# Altium footprint library atmel.PCBLIB: 60 footprints (part 2 of 4)
Each footprint in its own frame and in the unit in brackets; x right, y up, seen from the top. Pads: shape width x height; smd on the part's side, far side on the other; paste and mask are expansions set on the pad; w line width, h text height; cw(c..) or ccw(c..) is an arc to the next point about the centre after c.
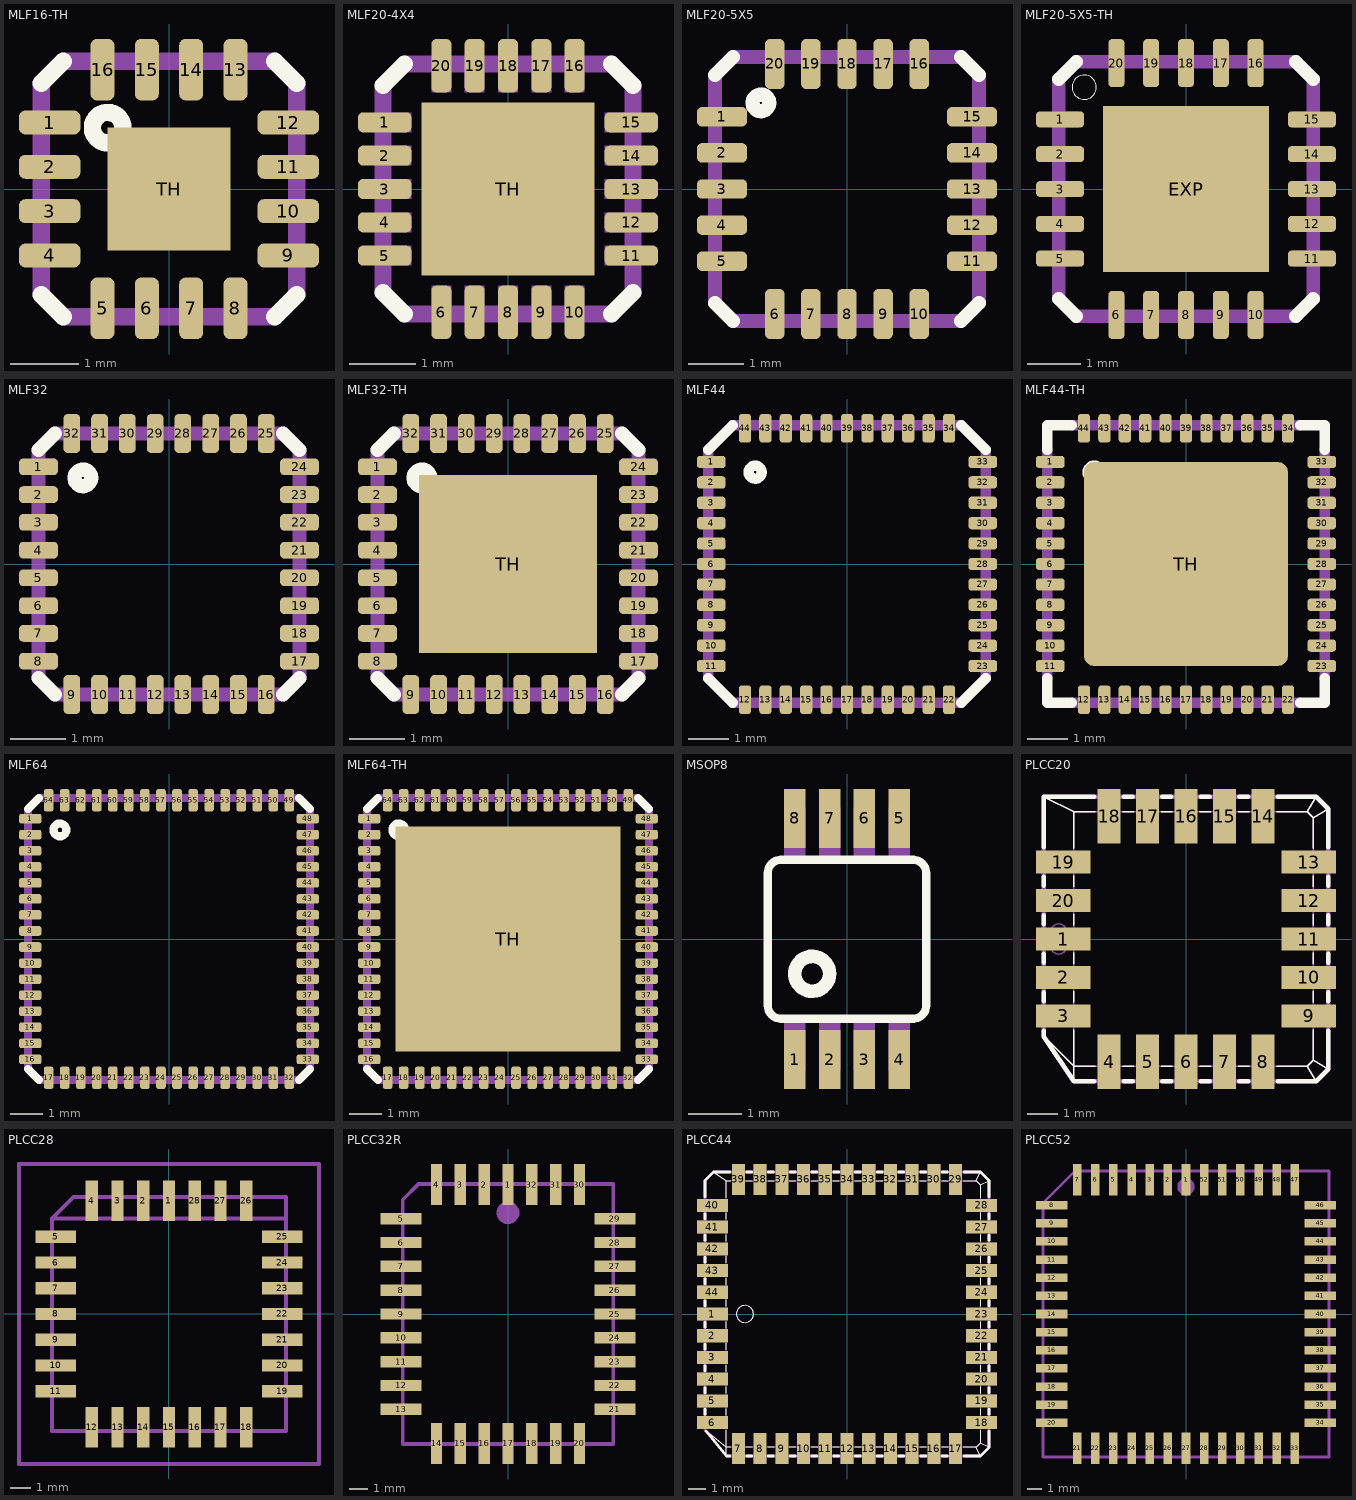
[diagram p1: the footprints below, top view; thin cyan lines are the x and y axes]

## MLF16-TH [mm]
pads (17):
  rrect50% 0.9x0.35 smd: 1(-1.75,0.975) 2(-1.75,0.325) 3(-1.75,-0.325) 4(-1.75,-0.975) 9(1.75,-0.975) 10(1.75,-0.325) 11(1.75,0.325) 12(1.75,0.975)
  rrect50% 0.35x0.9 smd: 5(-0.975,-1.75) 6(-0.325,-1.75) 7(0.325,-1.75) 8(0.975,-1.75) 13(0.975,1.75) 14(0.325,1.75) 15(-0.325,1.75) 16(-0.975,1.75)
  rect 1.8x1.8 smd: TH(0,0)
Top Overlay:
  circle w0.254: c-0.9,0.9 r0.224
  lines w0.254: -1.875,-1.55 -1.55,-1.875 ; -1.875,1.55 -1.55,1.875 ; 1.55,-1.875 1.875,-1.55 ; 1.55,1.875 1.875,1.55
Mechanical 16:
  rectangle: -1.85,0.825 -1.4,1.125
  rectangle: -1.85,0.175 -1.4,0.475
  rectangle: -1.85,-0.475 -1.4,-0.175
  rectangle: -1.85,-1.125 -1.4,-0.825
  rectangle: -1.125,-1.85 -0.825,-1.4
  rectangle: -0.475,-1.85 -0.175,-1.4
  rectangle: 0.175,-1.85 0.475,-1.4
  rectangle: 0.825,-1.85 1.125,-1.4
  rectangle: 1.4,-1.125 1.85,-0.825
  rectangle: 1.4,-0.475 1.85,-0.175
  rectangle: 1.4,0.175 1.85,0.475
  rectangle: 1.4,0.825 1.85,1.125
  rectangle: 0.825,1.4 1.125,1.85
  rectangle: 0.175,1.4 0.475,1.85
  rectangle: -0.475,1.4 -0.175,1.85
  rectangle: -1.125,1.4 -0.825,1.85
  lines w0.254: -1.875,-1.55 -1.875,1.55 ; -1.55,-1.875 1.55,-1.875 ; -1.55,1.875 1.55,1.875 ; 1.875,-1.55 1.875,1.55

## MLF20-4X4 [mil]
pads (21):
  rrect50% 31.5x11.81 smd: 1(-72.83,39.37) 2(-72.83,19.69) 3(-72.83,0) 4(-72.83,-19.69) 5(-72.83,-39.37) 11(72.83,-39.37) 12(72.83,-19.69) 13(72.83,0) 14(72.83,19.69) 15(72.83,39.37)
  rrect50% 11.81x31.5 smd: 6(-39.37,-72.83) 7(-19.69,-72.83) 8(0,-72.83) 9(19.69,-72.83) 10(39.37,-72.83) 16(39.37,72.83) 17(19.69,72.83) 18(0,72.83) 19(-19.69,72.83) 20(-39.37,72.83)
  rect 102.36x102.36 smd: TH(0,0)
Top Overlay:
  circle w10: c-39.37,39.37 r5.91
  lines w10: -73.82,-61.02 -61.02,-73.82 ; -73.82,61.02 -61.02,73.82 ; 61.02,-73.82 73.82,-61.02 ; 61.02,73.82 73.82,61.02
Mechanical 16:
  rectangle: -72.83,-5.91 -57.09,5.91
  rectangle: -72.83,13.78 -57.09,25.59
  rectangle: -72.83,33.46 -57.09,45.28
  rectangle: -72.83,-25.59 -57.09,-13.78
  rectangle: -72.83,-45.28 -57.09,-33.46
  region: 5.91,-72.84 5.91,-57.1 -5.91,-57.1 -5.91,-72.84
  region: -13.78,-72.84 -13.78,-57.09 -25.59,-57.09 -25.59,-72.84
  region: -33.47,-72.84 -33.47,-57.09 -45.28,-57.09 -45.28,-72.84
  region: 25.59,-72.84 25.59,-57.09 13.78,-57.09 13.78,-72.84
  region: 45.28,-72.84 45.28,-57.09 33.47,-57.09 33.47,-72.84
  region: 72.83,5.91 57.09,5.91 57.09,-5.91 72.83,-5.91
  region: 72.83,-13.78 57.09,-13.78 57.09,-25.59 72.83,-25.59
  region: 72.83,-33.46 57.09,-33.46 57.09,-45.28 72.83,-45.28
  region: 72.83,25.59 57.09,25.59 57.09,13.78 72.83,13.78
  region: 72.83,45.28 57.09,45.28 57.09,33.46 72.83,33.46
  region: -5.9,72.84 -5.91,57.1 5.9,57.1 5.91,72.84
  region: 13.78,72.84 13.78,57.09 25.59,57.09 25.59,72.84
  region: 33.47,72.84 33.47,57.09 45.28,57.09 45.28,72.84
  region: -25.59,72.84 -25.59,57.09 -13.78,57.09 -13.78,72.84
  region: -45.28,72.84 -45.28,57.09 -33.47,57.09 -33.47,72.84
  lines w10: -73.82,-61.02 -73.82,61.02 ; -61.02,-73.82 61.02,-73.82 ; -61.02,73.82 61.02,73.82 ; 73.82,-61.02 73.82,61.02

## MLF20-5X5 [mm]
pads (20):
  rrect50% 0.9x0.35 smd: 1(-2.25,1.3) 2(-2.25,0.65) 3(-2.25,0) 4(-2.25,-0.65) 5(-2.25,-1.3) 11(2.25,-1.3) 12(2.25,-0.65) 13(2.25,0) 14(2.25,0.65) 15(2.25,1.3)
  rrect50% 0.35x0.9 smd: 6(-1.3,-2.25) 7(-0.65,-2.25) 8(0,-2.25) 9(0.65,-2.25) 10(1.3,-2.25) 16(1.3,2.25) 17(0.65,2.25) 18(0,2.25) 19(-0.65,2.25) 20(-1.3,2.25)
Top Overlay:
  circle w0.254: c-1.55,1.55 r0.15
  lines w0.254: -2.375,-2.05 -2.05,-2.375 ; -2.375,2.05 -2.05,2.375 ; 2.05,-2.375 2.375,-2.05 ; 2.05,2.375 2.375,2.05
Mechanical 16:
  rectangle: -2.35,1.15 -1.9,1.45
  rectangle: -2.35,0.5 -1.9,0.8
  rectangle: -2.35,-0.15 -1.9,0.15
  rectangle: -2.35,-0.8 -1.9,-0.5
  rectangle: -2.35,-1.45 -1.9,-1.15
  rectangle: -1.45,-2.35 -1.15,-1.9
  rectangle: -0.8,-2.35 -0.5,-1.9
  rectangle: -0.15,-2.35 0.15,-1.9
  rectangle: 0.5,-2.35 0.8,-1.9
  rectangle: 1.15,-2.35 1.45,-1.9
  rectangle: 1.9,-1.45 2.35,-1.15
  rectangle: 1.9,-0.8 2.35,-0.5
  rectangle: 1.9,-0.15 2.35,0.15
  rectangle: 1.9,0.5 2.35,0.8
  rectangle: 1.9,1.15 2.35,1.45
  rectangle: 1.15,1.9 1.45,2.35
  rectangle: 0.5,1.9 0.8,2.35
  rectangle: -0.15,1.9 0.15,2.35
  rectangle: -0.8,1.9 -0.5,2.35
  rectangle: -1.45,1.9 -1.15,2.35
  lines w0.254: -2.375,-2.05 -2.375,2.05 ; -2.05,-2.375 2.05,-2.375 ; -2.05,2.375 2.05,2.375 ; 2.375,-2.05 2.375,2.05

## MLF20-5X5-TH [mm]
pads (21):
  rrect50% 0.9x0.3 smd: 1(-2.35,1.3) 2(-2.35,0.65) 3(-2.35,0) 4(-2.35,-0.65) 5(-2.35,-1.3) 11(2.35,-1.3) 12(2.35,-0.65) 13(2.35,0) 14(2.35,0.65) 15(2.35,1.3)
  rrect50% 0.3x0.9 smd: 6(-1.3,-2.35) 7(-0.65,-2.35) 8(0,-2.35) 9(0.65,-2.35) 10(1.3,-2.35) 16(1.3,2.35) 17(0.65,2.35) 18(0,2.35) 19(-0.65,2.35) 20(-1.3,2.35)
  rect 3.1x3.1 smd: EXP(0,0)
Top Overlay:
  circle w0: c-1.9,1.9 r0.226
  lines w0.254: -2.375,-2.05 -2.05,-2.375 ; -2.375,2.05 -2.05,2.375 ; 2.05,-2.375 2.375,-2.05 ; 2.05,2.375 2.375,2.05
Mechanical 16:
  rectangle: -2.45,1.15 -2,1.45
  rectangle: -2.45,0.5 -2,0.8
  rectangle: -2.45,-0.15 -2,0.15
  rectangle: -2.45,-0.8 -2,-0.5
  rectangle: -2.45,-1.45 -2,-1.15
  rectangle: -1.45,-2.45 -1.15,-2
  rectangle: -0.8,-2.45 -0.5,-2
  rectangle: -0.15,-2.45 0.15,-2
  rectangle: 0.5,-2.45 0.8,-2
  rectangle: 1.15,-2.45 1.45,-2
  rectangle: 2,-1.45 2.45,-1.15
  rectangle: 2,-0.8 2.45,-0.5
  rectangle: 2,-0.15 2.45,0.15
  rectangle: 2,0.5 2.45,0.8
  rectangle: 2,1.15 2.45,1.45
  rectangle: 1.15,2 1.45,2.45
  rectangle: 0.5,2 0.8,2.45
  rectangle: -0.15,2 0.15,2.45
  rectangle: -0.8,2 -0.5,2.45
  rectangle: -1.45,2 -1.15,2.45
  lines w0.254: -2.375,-2.05 -2.375,2.05 ; -2.05,-2.375 2.05,-2.375 ; -2.05,2.375 2.05,2.375 ; 2.375,-2.05 2.375,2.05

## MLF32 [mm]
pads (32):
  rrect50% 0.7x0.3 smd: 1(-2.35,1.75) 2(-2.35,1.25) 3(-2.35,0.75) 4(-2.35,0.25) 5(-2.35,-0.25) 6(-2.35,-0.75) 7(-2.35,-1.25) 8(-2.35,-1.75) 17(2.35,-1.75) 18(2.35,-1.25) 19(2.35,-0.75) 20(2.35,-0.25) 21(2.35,0.25) 22(2.35,0.75) 23(2.35,1.25) 24(2.35,1.75)
  rrect50% 0.3x0.7 smd: 9(-1.75,-2.35) 10(-1.25,-2.35) 11(-0.75,-2.35) 12(-0.25,-2.35) 13(0.25,-2.35) 14(0.75,-2.35) 15(1.25,-2.35) 16(1.75,-2.35) 25(1.75,2.35) 26(1.25,2.35) 27(0.75,2.35) 28(0.25,2.35) 29(-0.25,2.35) 30(-0.75,2.35) 31(-1.25,2.35) 32(-1.75,2.35)
Top Overlay:
  circle w0.254: c-1.55,1.55 r0.15
  lines w0.254: -2.35,-2.05 -2.05,-2.35 ; -2.35,2.05 -2.05,2.35 ; 2.05,-2.35 2.35,-2.05 ; 2.05,2.35 2.35,2.05
Mechanical 16:
  rectangle: -2.5,1.6 -2.05,1.9
  rectangle: -2.5,1.1 -2.05,1.4
  rectangle: -2.5,0.6 -2.05,0.9
  rectangle: -2.5,0.1 -2.05,0.4
  rectangle: -2.5,-0.4 -2.05,-0.1
  rectangle: -2.5,-0.9 -2.05,-0.6
  rectangle: -2.5,-1.4 -2.05,-1.1
  rectangle: -2.5,-1.9 -2.05,-1.6
  rectangle: -1.9,-2.5 -1.6,-2.05
  rectangle: -1.4,-2.5 -1.1,-2.05
  rectangle: -0.9,-2.5 -0.6,-2.05
  rectangle: -0.4,-2.5 -0.1,-2.05
  rectangle: 0.1,-2.5 0.4,-2.05
  rectangle: 0.6,-2.5 0.9,-2.05
  rectangle: 1.1,-2.5 1.4,-2.05
  rectangle: 1.6,-2.5 1.9,-2.05
  rectangle: 2.05,-1.9 2.5,-1.6
  rectangle: 2.05,-1.4 2.5,-1.1
  rectangle: 2.05,-0.9 2.5,-0.6
  rectangle: 2.05,-0.4 2.5,-0.1
  rectangle: 2.05,0.1 2.5,0.4
  rectangle: 2.05,0.6 2.5,0.9
  rectangle: 2.05,1.1 2.5,1.4
  rectangle: 2.05,1.6 2.5,1.9
  rectangle: 1.6,2.05 1.9,2.5
  rectangle: 1.1,2.05 1.4,2.5
  rectangle: 0.6,2.05 0.9,2.5
  rectangle: 0.1,2.05 0.4,2.5
  rectangle: -0.4,2.05 -0.1,2.5
  rectangle: -0.9,2.05 -0.6,2.5
  rectangle: -1.4,2.05 -1.1,2.5
  rectangle: -1.9,2.05 -1.6,2.5
  lines w0.254: -2.35,-2.05 -2.35,2.05 ; -2.05,-2.35 2.05,-2.35 ; -2.05,2.35 2.05,2.35 ; 2.35,-2.05 2.35,2.05

## MLF32-TH [mm]
pads (33):
  rrect50% 0.7x0.3 smd: 1(-2.35,1.75) 2(-2.35,1.25) 3(-2.35,0.75) 4(-2.35,0.25) 5(-2.35,-0.25) 6(-2.35,-0.75) 7(-2.35,-1.25) 8(-2.35,-1.75) 17(2.35,-1.75) 18(2.35,-1.25) 19(2.35,-0.75) 20(2.35,-0.25) 21(2.35,0.25) 22(2.35,0.75) 23(2.35,1.25) 24(2.35,1.75)
  rrect50% 0.3x0.7 smd: 9(-1.75,-2.35) 10(-1.25,-2.35) 11(-0.75,-2.35) 12(-0.25,-2.35) 13(0.25,-2.35) 14(0.75,-2.35) 15(1.25,-2.35) 16(1.75,-2.35) 25(1.75,2.35) 26(1.25,2.35) 27(0.75,2.35) 28(0.25,2.35) 29(-0.25,2.35) 30(-0.75,2.35) 31(-1.25,2.35) 32(-1.75,2.35)
  rect 3.2x3.2 smd: TH(0,0)
Top Overlay:
  circle w0.254: c-1.55,1.55 r0.15
  lines w0.254: -2.35,-2.05 -2.05,-2.35 ; -2.35,2.05 -2.05,2.35 ; 2.05,-2.35 2.35,-2.05 ; 2.05,2.35 2.35,2.05
Mechanical 16:
  rectangle: -2.5,1.6 -2.05,1.9
  rectangle: -2.5,1.1 -2.05,1.4
  rectangle: -2.5,0.6 -2.05,0.9
  rectangle: -2.5,0.1 -2.05,0.4
  rectangle: -2.5,-0.4 -2.05,-0.1
  rectangle: -2.5,-0.9 -2.05,-0.6
  rectangle: -2.5,-1.4 -2.05,-1.1
  rectangle: -2.5,-1.9 -2.05,-1.6
  rectangle: -1.9,-2.5 -1.6,-2.05
  rectangle: -1.4,-2.5 -1.1,-2.05
  rectangle: -0.9,-2.5 -0.6,-2.05
  rectangle: -0.4,-2.5 -0.1,-2.05
  rectangle: 0.1,-2.5 0.4,-2.05
  rectangle: 0.6,-2.5 0.9,-2.05
  rectangle: 1.1,-2.5 1.4,-2.05
  rectangle: 1.6,-2.5 1.9,-2.05
  rectangle: 2.05,-1.9 2.5,-1.6
  rectangle: 2.05,-1.4 2.5,-1.1
  rectangle: 2.05,-0.9 2.5,-0.6
  rectangle: 2.05,-0.4 2.5,-0.1
  rectangle: 2.05,0.1 2.5,0.4
  rectangle: 2.05,0.6 2.5,0.9
  rectangle: 2.05,1.1 2.5,1.4
  rectangle: 2.05,1.6 2.5,1.9
  rectangle: 1.6,2.05 1.9,2.5
  rectangle: 1.1,2.05 1.4,2.5
  rectangle: 0.6,2.05 0.9,2.5
  rectangle: 0.1,2.05 0.4,2.5
  rectangle: -0.4,2.05 -0.1,2.5
  rectangle: -0.9,2.05 -0.6,2.5
  rectangle: -1.4,2.05 -1.1,2.5
  rectangle: -1.9,2.05 -1.6,2.5
  lines w0.254: -2.35,-2.05 -2.35,2.05 ; -2.05,-2.35 2.05,-2.35 ; -2.05,2.35 2.05,2.35 ; 2.35,-2.05 2.35,2.05

## MLF44 [mm]
pads (44):
  rrect50% 0.7x0.3 smd: 1(-3.325,2.5) 2(-3.325,2) 3(-3.325,1.5) 4(-3.325,1) 5(-3.325,0.5) 6(-3.325,0) 7(-3.325,-0.5) 8(-3.325,-1) 9(-3.325,-1.5) 10(-3.325,-2) 11(-3.325,-2.5) 23(3.325,-2.5) 24(3.325,-2) 25(3.325,-1.5) 26(3.325,-1) 27(3.325,-0.5) 28(3.325,0) 29(3.325,0.5) 30(3.325,1) 31(3.325,1.5) 32(3.325,2) 33(3.325,2.5)
  rrect50% 0.3x0.7 smd: 12(-2.5,-3.325) 13(-2,-3.325) 14(-1.5,-3.325) 15(-1,-3.325) 16(-0.5,-3.325) 17(0,-3.325) 18(0.5,-3.325) 19(1,-3.325) 20(1.5,-3.325) 21(2,-3.325) 22(2.5,-3.325) 34(2.5,3.325) 35(2,3.325) 36(1.5,3.325) 37(1,3.325) 38(0.5,3.325) 39(0,3.325) 40(-0.5,3.325) 41(-1,3.325) 42(-1.5,3.325) 43(-2,3.325) 44(-2.5,3.325)
Top Overlay:
  circle w0.254: c-2.25,2.25 r0.158
  lines w0.254: -3.4,-2.8 -2.8,-3.4 ; -3.4,2.8 -2.8,3.4 ; 2.8,-3.4 3.4,-2.8 ; 2.8,3.4 3.4,2.8
Mechanical 16:
  rectangle: -3.5,2.375 -3,2.625
  rectangle: -3.5,1.875 -3,2.125
  rectangle: -3.5,1.375 -3,1.625
  rectangle: -3.5,0.875 -3,1.125
  rectangle: -3.5,0.375 -3,0.625
  rectangle: -3.5,-0.125 -3,0.125
  rectangle: -3.5,-0.625 -3,-0.375
  rectangle: -3.5,-1.125 -3,-0.875
  rectangle: -3.5,-1.625 -3,-1.375
  rectangle: -3.5,-2.125 -3,-1.875
  rectangle: -3.5,-2.625 -3,-2.375
  rectangle: -2.625,-3.5 -2.375,-3
  rectangle: -2.125,-3.5 -1.875,-3
  rectangle: -1.625,-3.5 -1.375,-3
  rectangle: -1.125,-3.5 -0.875,-3
  rectangle: -0.625,-3.5 -0.375,-3
  rectangle: -0.125,-3.5 0.125,-3
  rectangle: 0.375,-3.5 0.625,-3
  rectangle: 0.875,-3.5 1.125,-3
  rectangle: 1.375,-3.5 1.625,-3
  rectangle: 1.875,-3.5 2.125,-3
  rectangle: 2.375,-3.5 2.625,-3
  rectangle: 3,-2.625 3.5,-2.375
  rectangle: 3,-2.125 3.5,-1.875
  rectangle: 3,-1.625 3.5,-1.375
  rectangle: 3,-1.125 3.5,-0.875
  rectangle: 3,-0.625 3.5,-0.375
  rectangle: 3,-0.125 3.5,0.125
  rectangle: 3,0.375 3.5,0.625
  rectangle: 3,0.875 3.5,1.125
  rectangle: 3,1.375 3.5,1.625
  rectangle: 3,1.875 3.5,2.125
  rectangle: 3,2.375 3.5,2.625
  rectangle: 2.375,3 2.625,3.5
  rectangle: 1.875,3 2.125,3.5
  rectangle: 1.375,3 1.625,3.5
  rectangle: 0.875,3 1.125,3.5
  rectangle: 0.375,3 0.625,3.5
  rectangle: -0.125,3 0.125,3.5
  rectangle: -0.625,3 -0.375,3.5
  rectangle: -1.125,3 -0.875,3.5
  rectangle: -1.625,3 -1.375,3.5
  rectangle: -2.125,3 -1.875,3.5
  rectangle: -2.625,3 -2.375,3.5
  lines w0.254: -3.4,-2.8 -3.4,2.8 ; -2.8,-3.4 2.8,-3.4 ; -2.8,3.4 2.8,3.4 ; 3.4,-2.8 3.4,2.8

## MLF44-TH [mm]
pads (45):
  rrect50% 0.7x0.3 smd: 1(-3.325,2.5) 2(-3.325,2) 3(-3.325,1.5) 4(-3.325,1) 5(-3.325,0.5) 6(-3.325,0) 7(-3.325,-0.5) 8(-3.325,-1) 9(-3.325,-1.5) 10(-3.325,-2) 11(-3.325,-2.5) 23(3.325,-2.5) 24(3.325,-2) 25(3.325,-1.5) 26(3.325,-1) 27(3.325,-0.5) 28(3.325,0) 29(3.325,0.5) 30(3.325,1) 31(3.325,1.5) 32(3.325,2) 33(3.325,2.5)
  rrect50% 0.3x0.7 smd: 12(-2.5,-3.325) 13(-2,-3.325) 14(-1.5,-3.325) 15(-1,-3.325) 16(-0.5,-3.325) 17(0,-3.325) 18(0.5,-3.325) 19(1,-3.325) 20(1.5,-3.325) 21(2,-3.325) 22(2.5,-3.325) 34(2.5,3.325) 35(2,3.325) 36(1.5,3.325) 37(1,3.325) 38(0.5,3.325) 39(0,3.325) 40(-0.5,3.325) 41(-1,3.325) 42(-1.5,3.325) 43(-2,3.325) 44(-2.5,3.325)
  rrect10% 5x5 smd: TH(0,0)
Top Overlay:
  circle w0.254: c-2.25,2.25 r0.158
  lines w0.254: -3.4,-2.8 -3.4,-3.4 -2.8,-3.4 ; -3.4,2.8 -3.4,3.4 -2.8,3.4 ; 2.8,-3.4 3.4,-3.4 3.4,-2.8 ; 2.8,3.4 3.4,3.4 3.4,2.8
Mechanical 16:
  rectangle: -3.5,2.375 -3,2.625
  rectangle: -3.5,1.875 -3,2.125
  rectangle: -3.5,1.375 -3,1.625
  rectangle: -3.5,0.875 -3,1.125
  rectangle: -3.5,0.375 -3,0.625
  rectangle: -3.5,-0.125 -3,0.125
  rectangle: -3.5,-0.625 -3,-0.375
  rectangle: -3.5,-1.125 -3,-0.875
  rectangle: -3.5,-1.625 -3,-1.375
  rectangle: -3.5,-2.125 -3,-1.875
  rectangle: -3.5,-2.625 -3,-2.375
  rectangle: -2.625,-3.5 -2.375,-3
  rectangle: -2.125,-3.5 -1.875,-3
  rectangle: -1.625,-3.5 -1.375,-3
  rectangle: -1.125,-3.5 -0.875,-3
  rectangle: -0.625,-3.5 -0.375,-3
  rectangle: -0.125,-3.5 0.125,-3
  rectangle: 0.375,-3.5 0.625,-3
  rectangle: 0.875,-3.5 1.125,-3
  rectangle: 1.375,-3.5 1.625,-3
  rectangle: 1.875,-3.5 2.125,-3
  rectangle: 2.375,-3.5 2.625,-3
  rectangle: 3,-2.625 3.5,-2.375
  rectangle: 3,-2.125 3.5,-1.875
  rectangle: 3,-1.625 3.5,-1.375
  rectangle: 3,-1.125 3.5,-0.875
  rectangle: 3,-0.625 3.5,-0.375
  rectangle: 3,-0.125 3.5,0.125
  rectangle: 3,0.375 3.5,0.625
  rectangle: 3,0.875 3.5,1.125
  rectangle: 3,1.375 3.5,1.625
  rectangle: 3,1.875 3.5,2.125
  rectangle: 3,2.375 3.5,2.625
  rectangle: 2.375,3 2.625,3.5
  rectangle: 1.875,3 2.125,3.5
  rectangle: 1.375,3 1.625,3.5
  rectangle: 0.875,3 1.125,3.5
  rectangle: 0.375,3 0.625,3.5
  rectangle: -0.125,3 0.125,3.5
  rectangle: -0.625,3 -0.375,3.5
  rectangle: -1.125,3 -0.875,3.5
  rectangle: -1.625,3 -1.375,3.5
  rectangle: -2.125,3 -1.875,3.5
  rectangle: -2.625,3 -2.375,3.5
  lines w0.254: -3.4,-2.8 -3.4,2.8 ; -2.8,-3.4 2.8,-3.4 ; -2.8,3.4 2.8,3.4 ; 3.4,-2.8 3.4,2.8

## MLF64 [mm]
pads (64):
  rrect50% 0.7x0.3 smd: 1(-4.325,3.75) 2(-4.325,3.25) 3(-4.325,2.75) 4(-4.325,2.25) 5(-4.325,1.75) 6(-4.325,1.25) 7(-4.325,0.75) 8(-4.325,0.25) 9(-4.325,-0.25) 10(-4.325,-0.75) 11(-4.325,-1.25) 12(-4.325,-1.75) 13(-4.325,-2.25) 14(-4.325,-2.75) 15(-4.325,-3.25) 16(-4.325,-3.75) 33(4.325,-3.75) 34(4.325,-3.25) 35(4.325,-2.75) 36(4.325,-2.25) 37(4.325,-1.75) 38(4.325,-1.25) 39(4.325,-0.75) 40(4.325,-0.25) 41(4.325,0.25) 42(4.325,0.75) 43(4.325,1.25) 44(4.325,1.75) 45(4.325,2.25) 46(4.325,2.75) 47(4.325,3.25) 48(4.325,3.75)
  rrect50% 0.3x0.7 smd: 17(-3.75,-4.325) 18(-3.25,-4.325) 19(-2.75,-4.325) 20(-2.25,-4.325) 21(-1.75,-4.325) 22(-1.25,-4.325) 23(-0.75,-4.325) 24(-0.25,-4.325) 25(0.25,-4.325) 26(0.75,-4.325) 27(1.25,-4.325) 28(1.75,-4.325) 29(2.25,-4.325) 30(2.75,-4.325) 31(3.25,-4.325) 32(3.75,-4.325) 49(3.75,4.325) 50(3.25,4.325) 51(2.75,4.325) 52(2.25,4.325) 53(1.75,4.325) 54(1.25,4.325) 55(0.75,4.325) 56(0.25,4.325) 57(-0.25,4.325) 58(-0.75,4.325) 59(-1.25,4.325) 60(-1.75,4.325) 61(-2.25,4.325) 62(-2.75,4.325) 63(-3.25,4.325) 64(-3.75,4.325)
Top Overlay:
  circle w0.254: c-3.4,3.4 r0.2
  lines w0.254: -4.4,-4.05 -4.05,-4.4 ; -4.4,4.05 -4.05,4.4 ; 4.05,-4.4 4.4,-4.05 ; 4.05,4.4 4.4,4.05
Mechanical 16:
  rectangle: -4.5,3.625 -4,3.875
  rectangle: -4.5,3.125 -4,3.375
  rectangle: -4.5,2.625 -4,2.875
  rectangle: -4.5,2.125 -4,2.375
  rectangle: -4.5,1.625 -4,1.875
  rectangle: -4.5,1.125 -4,1.375
  rectangle: -4.5,0.625 -4,0.875
  rectangle: -4.5,0.125 -4,0.375
  rectangle: -4.5,-0.375 -4,-0.125
  rectangle: -4.5,-0.875 -4,-0.625
  rectangle: -4.5,-1.375 -4,-1.125
  rectangle: -4.5,-1.875 -4,-1.625
  rectangle: -4.5,-2.375 -4,-2.125
  rectangle: -4.5,-2.875 -4,-2.625
  rectangle: -4.5,-3.375 -4,-3.125
  rectangle: -4.5,-3.875 -4,-3.625
  rectangle: -3.875,-4.5 -3.625,-4
  rectangle: -3.375,-4.5 -3.125,-4
  rectangle: -2.875,-4.5 -2.625,-4
  rectangle: -2.375,-4.5 -2.125,-4
  rectangle: -1.875,-4.5 -1.625,-4
  rectangle: -1.375,-4.5 -1.125,-4
  rectangle: -0.875,-4.5 -0.625,-4
  rectangle: -0.375,-4.5 -0.125,-4
  rectangle: 0.125,-4.5 0.375,-4
  rectangle: 0.625,-4.5 0.875,-4
  rectangle: 1.125,-4.5 1.375,-4
  rectangle: 1.625,-4.5 1.875,-4
  rectangle: 2.125,-4.5 2.375,-4
  rectangle: 2.625,-4.5 2.875,-4
  rectangle: 3.125,-4.5 3.375,-4
  rectangle: 3.625,-4.5 3.875,-4
  rectangle: 4,-3.875 4.5,-3.625
  rectangle: 4,-3.375 4.5,-3.125
  rectangle: 4,-2.875 4.5,-2.625
  rectangle: 4,-2.375 4.5,-2.125
  rectangle: 4,-1.875 4.5,-1.625
  rectangle: 4,-1.375 4.5,-1.125
  rectangle: 4,-0.875 4.5,-0.625
  rectangle: 4,-0.375 4.5,-0.125
  rectangle: 4,0.125 4.5,0.375
  rectangle: 4,0.625 4.5,0.875
  rectangle: 4,1.125 4.5,1.375
  rectangle: 4,1.625 4.5,1.875
  rectangle: 4,2.125 4.5,2.375
  rectangle: 4,2.625 4.5,2.875
  rectangle: 4,3.125 4.5,3.375
  rectangle: 4,3.625 4.5,3.875
  rectangle: 3.625,4 3.875,4.5
  rectangle: 3.125,4 3.375,4.5
  rectangle: 2.625,4 2.875,4.5
  rectangle: 2.125,4 2.375,4.5
  rectangle: 1.625,4 1.875,4.5
  rectangle: 1.125,4 1.375,4.5
  rectangle: 0.625,4 0.875,4.5
  rectangle: 0.125,4 0.375,4.5
  rectangle: -0.375,4 -0.125,4.5
  rectangle: -0.875,4 -0.625,4.5
  rectangle: -1.375,4 -1.125,4.5
  rectangle: -1.875,4 -1.625,4.5
  rectangle: -2.375,4 -2.125,4.5
  rectangle: -2.875,4 -2.625,4.5
  rectangle: -3.375,4 -3.125,4.5
  rectangle: -3.875,4 -3.625,4.5
  lines w0.254: -4.4,-4.05 -4.4,4.05 ; -4.05,-4.4 4.05,-4.4 ; -4.05,4.4 4.05,4.4 ; 4.4,-4.05 4.4,4.05

## MLF64-TH [mm]
pads (65):
  rrect50% 0.7x0.3 smd: 1(-4.325,3.75) 2(-4.325,3.25) 3(-4.325,2.75) 4(-4.325,2.25) 5(-4.325,1.75) 6(-4.325,1.25) 7(-4.325,0.75) 8(-4.325,0.25) 9(-4.325,-0.25) 10(-4.325,-0.75) 11(-4.325,-1.25) 12(-4.325,-1.75) 13(-4.325,-2.25) 14(-4.325,-2.75) 15(-4.325,-3.25) 16(-4.325,-3.75) 33(4.325,-3.75) 34(4.325,-3.25) 35(4.325,-2.75) 36(4.325,-2.25) 37(4.325,-1.75) 38(4.325,-1.25) 39(4.325,-0.75) 40(4.325,-0.25) 41(4.325,0.25) 42(4.325,0.75) 43(4.325,1.25) 44(4.325,1.75) 45(4.325,2.25) 46(4.325,2.75) 47(4.325,3.25) 48(4.325,3.75)
  rrect50% 0.3x0.7 smd: 17(-3.75,-4.325) 18(-3.25,-4.325) 19(-2.75,-4.325) 20(-2.25,-4.325) 21(-1.75,-4.325) 22(-1.25,-4.325) 23(-0.75,-4.325) 24(-0.25,-4.325) 25(0.25,-4.325) 26(0.75,-4.325) 27(1.25,-4.325) 28(1.75,-4.325) 29(2.25,-4.325) 30(2.75,-4.325) 31(3.25,-4.325) 32(3.75,-4.325) 49(3.75,4.325) 50(3.25,4.325) 51(2.75,4.325) 52(2.25,4.325) 53(1.75,4.325) 54(1.25,4.325) 55(0.75,4.325) 56(0.25,4.325) 57(-0.25,4.325) 58(-0.75,4.325) 59(-1.25,4.325) 60(-1.75,4.325) 61(-2.25,4.325) 62(-2.75,4.325) 63(-3.25,4.325) 64(-3.75,4.325)
  rect 7x7 smd: TH(0,0)
Top Overlay:
  circle w0.254: c-3.4,3.4 r0.2
  lines w0.254: -4.4,-4.05 -4.05,-4.4 ; -4.4,4.05 -4.05,4.4 ; 4.05,-4.4 4.4,-4.05 ; 4.05,4.4 4.4,4.05
Mechanical 16:
  rectangle: -4.5,3.625 -4,3.875
  rectangle: -4.5,3.125 -4,3.375
  rectangle: -4.5,2.625 -4,2.875
  rectangle: -4.5,2.125 -4,2.375
  rectangle: -4.5,1.625 -4,1.875
  rectangle: -4.5,1.125 -4,1.375
  rectangle: -4.5,0.625 -4,0.875
  rectangle: -4.5,0.125 -4,0.375
  rectangle: -4.5,-0.375 -4,-0.125
  rectangle: -4.5,-0.875 -4,-0.625
  rectangle: -4.5,-1.375 -4,-1.125
  rectangle: -4.5,-1.875 -4,-1.625
  rectangle: -4.5,-2.375 -4,-2.125
  rectangle: -4.5,-2.875 -4,-2.625
  rectangle: -4.5,-3.375 -4,-3.125
  rectangle: -4.5,-3.875 -4,-3.625
  rectangle: -3.875,-4.5 -3.625,-4
  rectangle: -3.375,-4.5 -3.125,-4
  rectangle: -2.875,-4.5 -2.625,-4
  rectangle: -2.375,-4.5 -2.125,-4
  rectangle: -1.875,-4.5 -1.625,-4
  rectangle: -1.375,-4.5 -1.125,-4
  rectangle: -0.875,-4.5 -0.625,-4
  rectangle: -0.375,-4.5 -0.125,-4
  rectangle: 0.125,-4.5 0.375,-4
  rectangle: 0.625,-4.5 0.875,-4
  rectangle: 1.125,-4.5 1.375,-4
  rectangle: 1.625,-4.5 1.875,-4
  rectangle: 2.125,-4.5 2.375,-4
  rectangle: 2.625,-4.5 2.875,-4
  rectangle: 3.125,-4.5 3.375,-4
  rectangle: 3.625,-4.5 3.875,-4
  rectangle: 4,-3.875 4.5,-3.625
  rectangle: 4,-3.375 4.5,-3.125
  rectangle: 4,-2.875 4.5,-2.625
  rectangle: 4,-2.375 4.5,-2.125
  rectangle: 4,-1.875 4.5,-1.625
  rectangle: 4,-1.375 4.5,-1.125
  rectangle: 4,-0.875 4.5,-0.625
  rectangle: 4,-0.375 4.5,-0.125
  rectangle: 4,0.125 4.5,0.375
  rectangle: 4,0.625 4.5,0.875
  rectangle: 4,1.125 4.5,1.375
  rectangle: 4,1.625 4.5,1.875
  rectangle: 4,2.125 4.5,2.375
  rectangle: 4,2.625 4.5,2.875
  rectangle: 4,3.125 4.5,3.375
  rectangle: 4,3.625 4.5,3.875
  rectangle: 3.625,4 3.875,4.5
  rectangle: 3.125,4 3.375,4.5
  rectangle: 2.625,4 2.875,4.5
  rectangle: 2.125,4 2.375,4.5
  rectangle: 1.625,4 1.875,4.5
  rectangle: 1.125,4 1.375,4.5
  rectangle: 0.625,4 0.875,4.5
  rectangle: 0.125,4 0.375,4.5
  rectangle: -0.375,4 -0.125,4.5
  rectangle: -0.875,4 -0.625,4.5
  rectangle: -1.375,4 -1.125,4.5
  rectangle: -1.875,4 -1.625,4.5
  rectangle: -2.375,4 -2.125,4.5
  rectangle: -2.875,4 -2.625,4.5
  rectangle: -3.375,4 -3.125,4.5
  rectangle: -3.875,4 -3.625,4.5
  lines w0.254: -4.4,-4.05 -4.4,4.05 ; -4.05,-4.4 4.05,-4.4 ; -4.05,4.4 4.05,4.4 ; 4.4,-4.05 4.4,4.05

## MSOP8 [mm]
pads (8):
  rect 0.4x1.1 smd: 1(-0.975,-2.25) 2(-0.325,-2.25) 3(0.325,-2.25) 4(0.975,-2.25) 5(0.975,2.25) 6(0.325,2.25) 7(-0.325,2.25) 8(-0.975,2.25)
Top Overlay:
  circle w0.254: c-0.65,-0.65 r0.325
  lines w0.152: -1.48,-1.24 ccw(c-1.23,-1.24) -1.23,-1.49 ; -1.48,-1.23 -1.48,1.23 cw(c-1.23,1.23) -1.23,1.48 ; -1.22,-1.49 1.24,-1.49 ; -1.22,1.48 1.24,1.48 ; 1.23,-1.49 ccw(c1.23,-1.24) 1.48,-1.24 1.48,1.23 ccw(c1.23,1.23) 1.23,1.48
Mechanical 16:
  rectangle: -1.175,-2.45 -0.775,-1.55
  rectangle: -0.525,-2.45 -0.125,-1.55
  rectangle: 0.125,-2.45 0.525,-1.55
  rectangle: 0.775,-2.45 1.175,-1.55
  rectangle: 0.775,1.55 1.175,2.45
  rectangle: 0.125,1.55 0.525,2.45
  rectangle: -0.525,1.55 -0.125,2.45
  rectangle: -1.175,1.55 -0.775,2.45

## PLCC20 [mm]
pads (20):
  rect 1.8x0.76 smd: 1(-4.05,0) 2(-4.05,-1.27) 3(-4.05,-2.54) 9(4.05,-2.54) 10(4.05,-1.27) 11(4.05,0) 12(4.05,1.27) 13(4.05,2.54) 19(-4.05,2.54) 20(-4.05,1.27)
  rect 0.76x1.8 smd: 4(-2.54,-4.05) 5(-1.27,-4.05) 6(0,-4.05) 7(1.27,-4.05) 8(2.54,-4.05) 14(2.54,4.05) 15(1.27,4.05) 16(0,4.05) 17(-1.27,4.05) 18(-2.54,4.05)
Top Overlay:
  lines w0.051: -4.7,4.7 -3.7,4.2 ; -4.69,-3.21 -3.7,-4.2 ; -3.7,-4.69 -3.7,-4.2 ; -3.7,-2.991 -3.7,-4.2 ; -3.7,-2.089 -3.7,-1.721 ; -3.7,-0.819 -3.7,-0.451 ; -3.7,0.451 -3.7,0.819 ; -3.7,1.721 -3.7,2.089 ; -3.7,2.991 -3.7,4.2 ; -2.991,-4.2 -3.7,-4.2 ; -2.991,4.2 -3.7,4.2 ; -2.089,-4.2 -1.721,-4.2 ; -2.089,4.2 -1.721,4.2 ; -0.819,-4.2 -0.451,-4.2 ; -0.819,4.2 -0.451,4.2 ; 0.451,-4.2 0.819,-4.2 ; 0.451,4.2 0.819,4.2 ; 1.721,-4.2 2.089,-4.2 ; 1.721,4.2 2.089,4.2 ; 2.991,-4.2 4,-4.2 ; 2.991,4.2 4,4.2 ; 4.2,-2.991 4.2,-4 ; 4.2,-2.089 4.2,-1.721 ; 4.2,-0.819 4.2,-0.451 ; 4.2,0.451 4.2,0.819 ; 4.2,1.721 4.2,2.089 ; 4.2,2.991 4.2,4 ; 4.3,-4.7 4,-4.2 ; 4.3,4.7 4,4.2 ; 4.7,-4.3 4.2,-4 ; 4.7,4.3 4.2,4 ; 4,-4.2 4.2,-4 ; 4,4.2 4.2,4
  lines w0.152: -4.7,-3.031 -4.7,-3.21 -3.7,-4.7 -3.031,-4.7 ; -4.7,-2.049 -4.7,-1.761 ; -4.7,-0.779 -4.7,-0.491 ; -4.7,0.491 -4.7,0.779 ; -4.7,1.761 -4.7,2.049 ; -4.7,3.031 -4.7,4.7 -3.031,4.7 ; -2.049,-4.7 -1.761,-4.7 ; -2.049,4.7 -1.761,4.7 ; -0.779,-4.7 -0.491,-4.7 ; -0.779,4.7 -0.491,4.7 ; 0.491,-4.7 0.779,-4.7 ; 0.491,4.7 0.779,4.7 ; 1.761,-4.7 2.049,-4.7 ; 1.761,4.7 2.049,4.7 ; 3.031,-4.7 4.3,-4.7 4.7,-4.3 4.7,-3.031 ; 3.031,4.7 4.3,4.7 4.7,4.3 4.7,3.031 ; 4.7,-2.049 4.7,-1.761 ; 4.7,-0.779 4.7,-0.491 ; 4.7,0.491 4.7,0.779 ; 4.7,1.761 4.7,2.049
Mechanical 16:
  rectangle: -2.79,-4.95 -2.29,-4.7
  rectangle: -2.79,4.7 -2.29,4.95
  rectangle: -1.52,4.7 -1.02,4.95
  rectangle: -0.25,4.7 0.25,4.95
  rectangle: 1.02,4.7 1.52,4.95
  rectangle: 2.29,4.7 2.79,4.95
  rectangle: 1.02,4.7 1.52,4.95
  rectangle: -0.25,4.7 0.25,4.95
  rectangle: 4.7,2.29 4.95,2.79
  rectangle: 4.7,1.02 4.95,1.52
  rectangle: 4.7,-0.25 4.95,0.25
  rectangle: 4.7,-1.52 4.95,-1.02
  rectangle: 4.7,-2.79 4.95,-2.29
  rectangle: -1.52,-4.95 -1.02,-4.7
  rectangle: -0.25,-4.95 0.25,-4.7
  rectangle: 1.02,-4.95 1.52,-4.7
  rectangle: 2.29,-4.95 2.79,-4.7
  rectangle: -4.95,2.29 -4.7,2.79
  rectangle: -4.95,1.02 -4.7,1.52
  rectangle: -4.95,-0.25 -4.7,0.25
  rectangle: -4.95,-1.52 -4.7,-1.02
  rectangle: -4.95,-2.79 -4.7,-2.29
  lines w0.051: -4.7,-3.2 -3.7,-4.2 ; -4.7,4.7 -3.7,4.2 ; 4.3,-4.7 4,-4.2 ; 4.3,4.7 4,4.2 ; 4.7,-4.3 4.2,-4 ; 4.7,4.3 4.2,4 ; -3.7,-4.2 4,-4.2 ; -3.7,-4.2 -3.7,4.2 ; -3.7,4.2 4,4.2 ; 4,-4.2 4.2,-4 ; 4,4.2 4.2,4 ; 4.2,-4 4.2,4 ; -4.45,-0.25 ccw(c-4.2,-0.25) -3.95,-0.25 -3.95,0.25 ccw(c-4.2,0.25) -4.45,0.25 -4.45,-0.25
  lines w0.152: -4.7,-3.2 -4.7,4.7 4.3,4.7 4.7,4.3 4.7,-4.3 4.3,-4.7 -3.7,-4.7 -4.7,-3.2

## PLCC28 [mm]
pads (28):
  rect 0.6x2 smd: 1(0,5.6) 2(-1.27,5.6) 3(-2.54,5.6) 4(-3.81,5.6) 12(-3.81,-5.6) 13(-2.54,-5.6) 14(-1.27,-5.6) 15(0,-5.6) 16(1.27,-5.6) 17(2.54,-5.6) 18(3.81,-5.6) 26(3.81,5.6) 27(2.54,5.6) 28(1.27,5.6)
  rect 2x0.6 smd: 5(-5.6,3.81) 6(-5.6,2.54) 7(-5.6,1.27) 8(-5.6,0) 9(-5.6,-1.27) 10(-5.6,-2.54) 11(-5.6,-3.81) 19(5.6,-3.81) 20(5.6,-2.54) 21(5.6,-1.27) 22(5.6,0) 23(5.6,1.27) 24(5.6,2.54) 25(5.6,3.81)
Mechanical 16:
  rectangle: -0.26,5.825 0.26,6.275
  rectangle: -1.53,5.825 -1.01,6.275
  rectangle: -2.8,5.825 -2.28,6.275
  rectangle: -4.07,5.825 -3.55,6.275
  rectangle: -6.275,3.55 -5.825,4.07
  rectangle: -6.275,2.28 -5.825,2.8
  rectangle: -6.275,1.01 -5.825,1.53
  rectangle: -6.275,-0.26 -5.825,0.26
  rectangle: -6.275,-1.53 -5.825,-1.01
  rectangle: -6.275,-2.8 -5.825,-2.28
  rectangle: -6.275,-4.07 -5.825,-3.55
  rectangle: -4.07,-6.275 -3.55,-5.825
  rectangle: -2.8,-6.275 -2.28,-5.825
  rectangle: -1.53,-6.275 -1.01,-5.825
  rectangle: -0.26,-6.275 0.26,-5.825
  rectangle: 1.01,-6.275 1.53,-5.825
  rectangle: 2.28,-6.275 2.8,-5.825
  rectangle: 3.55,-6.275 4.07,-5.825
  rectangle: 5.825,-4.07 6.275,-3.55
  rectangle: 5.825,-2.8 6.275,-2.28
  rectangle: 5.825,-1.53 6.275,-1.01
  rectangle: 5.825,-0.26 6.275,0.26
  rectangle: 5.825,1.01 6.275,1.53
  rectangle: 5.825,2.28 6.275,2.8
  rectangle: 5.825,3.55 6.275,4.07
  rectangle: 3.55,5.825 4.07,6.275
  rectangle: 2.28,5.825 2.8,6.275
  rectangle: 1.01,5.825 1.53,6.275
  lines w0.203: 5.75,4.715 -5.775,4.715 ; -5.775,4.715 -5.775,-5.775 5.775,-5.775 5.775,5.775 -4.715,5.775 -5.775,4.715
Mechanical 27:
  lines w0.2: -7.403,-7.403 7.403,-7.403 7.403,7.403 -7.403,7.403 -7.403,-7.403

## PLCC32R [mm]
pads (32):
  rect 0.6x2.2 smd: 1(0,6.9) 2(-1.27,6.9) 3(-2.54,6.9) 4(-3.81,6.9) 14(-3.81,-6.9) 15(-2.54,-6.9) 16(-1.27,-6.9) 17(0,-6.9) 18(1.27,-6.9) 19(2.54,-6.9) 20(3.81,-6.9) 30(3.81,6.9) 31(2.54,6.9) 32(1.27,6.9)
  rect 2.2x0.6 smd: 5(-5.7,5.08) 6(-5.7,3.81) 7(-5.7,2.54) 8(-5.7,1.27) 9(-5.7,0) 10(-5.7,-1.27) 11(-5.7,-2.54) 12(-5.7,-3.81) 13(-5.7,-5.08) 21(5.7,-5.08) 22(5.7,-3.81) 23(5.7,-2.54) 24(5.7,-1.27) 25(5.7,0) 26(5.7,1.27) 27(5.7,2.54) 28(5.7,3.81) 29(5.7,5.08)
Mechanical 16:
  circle w0.61: c0,5.4 r0.3
  rectangle: -0.26,6.95 0.27,7.53
  rectangle: -1.53,6.95 -1,7.53
  rectangle: -2.8,6.95 -2.27,7.53
  rectangle: -4.07,6.95 -3.54,7.53
  rectangle: -6.33,4.82 -5.75,5.35
  rectangle: -6.33,3.55 -5.75,4.08
  rectangle: -6.33,2.28 -5.75,2.81
  rectangle: -6.33,1.01 -5.75,1.54
  rectangle: -6.33,-0.26 -5.75,0.27
  rectangle: -6.33,-1.53 -5.75,-1
  rectangle: -6.33,-2.8 -5.75,-2.27
  rectangle: -6.33,-4.07 -5.75,-3.54
  rectangle: -6.33,-5.34 -5.75,-4.81
  rectangle: -4.08,-7.53 -3.55,-6.95
  rectangle: -2.81,-7.53 -2.28,-6.95
  rectangle: -1.54,-7.53 -1.01,-6.95
  rectangle: -0.27,-7.53 0.26,-6.95
  rectangle: 1,-7.53 1.53,-6.95
  rectangle: 2.27,-7.53 2.8,-6.95
  rectangle: 3.54,-7.53 4.07,-6.95
  rectangle: 5.75,-5.35 6.33,-4.82
  rectangle: 5.75,-4.08 6.33,-3.55
  rectangle: 5.75,-2.81 6.33,-2.28
  rectangle: 5.75,-1.54 6.33,-1.01
  rectangle: 5.75,-0.27 6.33,0.26
  rectangle: 5.75,1 6.33,1.53
  rectangle: 5.75,2.27 6.33,2.8
  rectangle: 5.75,3.54 6.33,4.07
  rectangle: 5.75,4.81 6.33,5.34
  rectangle: 3.55,6.95 4.08,7.53
  rectangle: 2.28,6.95 2.81,7.53
  rectangle: 1.01,6.95 1.54,7.53
  lines w0.203: -5.61,-6.93 5.61,-6.93 5.61,6.93 -4.77,6.93 -5.61,6.09 -5.61,-6.93

## PLCC44 [mm]
pads (44):
  rect 1.8x0.76 smd: 1(-7.86,0) 2(-7.86,-1.27) 3(-7.86,-2.54) 4(-7.86,-3.81) 5(-7.86,-5.08) 6(-7.86,-6.35) 18(7.86,-6.35) 19(7.86,-5.08) 20(7.86,-3.81) 21(7.86,-2.54) 22(7.86,-1.27) 23(7.86,0) 24(7.86,1.27) 25(7.86,2.54) 26(7.86,3.81) 27(7.86,5.08) 28(7.86,6.35) 40(-7.86,6.35) 41(-7.86,5.08) 42(-7.86,3.81) 43(-7.86,2.54) 44(-7.86,1.27)
  rect 0.76x1.8 smd: 7(-6.35,-7.86) 8(-5.08,-7.86) 9(-3.81,-7.86) 10(-2.54,-7.86) 11(-1.27,-7.86) 12(0,-7.86) 13(1.27,-7.86) 14(2.54,-7.86) 15(3.81,-7.86) 16(5.08,-7.86) 17(6.35,-7.86) 29(6.35,7.86) 30(5.08,7.86) 31(3.81,7.86) 32(2.54,7.86) 33(1.27,7.86) 34(0,7.86) 35(-1.27,7.86) 36(-2.54,7.86) 37(-3.81,7.86) 38(-5.08,7.86) 39(-6.35,7.86)
Top Overlay:
  circle w0.051: c-5.96,0 r0.5
  lines w0.051: -8.219,-6.852 -7.04,-7.79 ; -7.79,8.29 -7.04,7.79 ; -7.04,-8.29 -7.04,-7.79 ; -7.04,-6.801 -7.04,-7.79 ; -7.04,-5.899 -7.04,-5.531 ; -7.04,-4.629 -7.04,-4.261 ; -7.04,-3.359 -7.04,-2.991 ; -7.04,-2.089 -7.04,-1.721 ; -7.04,-0.819 -7.04,-0.451 ; -7.04,0.451 -7.04,0.819 ; -7.04,1.721 -7.04,2.089 ; -7.04,2.991 -7.04,3.359 ; -7.04,4.261 -7.04,4.629 ; -7.04,5.531 -7.04,5.899 ; -7.04,6.801 -7.04,7.79 ; -6.801,-7.79 -7.04,-7.79 ; -6.801,7.79 -7.04,7.79 ; -5.899,-7.79 -5.531,-7.79 ; -5.899,7.79 -5.531,7.79 ; -4.629,-7.79 -4.261,-7.79 ; -4.629,7.79 -4.261,7.79 ; -3.359,-7.79 -2.991,-7.79 ; -3.359,7.79 -2.991,7.79 ; -2.089,-7.79 -1.721,-7.79 ; -2.089,7.79 -1.721,7.79 ; -0.819,-7.79 -0.451,-7.79 ; -0.819,7.79 -0.451,7.79 ; 0.451,-7.79 0.819,-7.79 ; 0.451,7.79 0.819,7.79 ; 1.721,-7.79 2.089,-7.79 ; 1.721,7.79 2.089,7.79 ; 2.991,-7.79 3.359,-7.79 ; 2.991,7.79 3.359,7.79 ; 4.261,-7.79 4.629,-7.79 ; 4.261,7.79 4.629,7.79 ; 5.531,-7.79 5.899,-7.79 ; 5.531,7.79 5.899,7.79 ; 6.801,-7.79 7.54,-7.79 ; 6.801,7.79 7.54,7.79 ; 7.79,-8.29 7.54,-7.79 ; 7.79,-6.801 7.79,-7.54 ; 7.79,-5.899 7.79,-5.531 ; 7.79,-4.629 7.79,-4.261 ; 7.79,-3.359 7.79,-2.991 ; 7.79,-2.089 7.79,-1.721 ; 7.79,-0.819 7.79,-0.451 ; 7.79,0.451 7.79,0.819 ; 7.79,1.721 7.79,2.089 ; 7.79,2.991 7.79,3.359 ; 7.79,4.261 7.79,4.629 ; 7.79,5.531 7.79,5.899 ; 7.79,6.801 7.79,7.54 ; 7.79,8.29 7.54,7.79 ; 8.29,-7.79 7.79,-7.54 ; 8.29,7.79 7.79,7.54 ; 7.54,-7.79 7.79,-7.54 ; 7.54,7.79 7.79,7.54
  lines w0.152: -8.29,-5.859 -8.29,-5.571 ; -8.29,-4.589 -8.29,-4.301 ; -8.29,-3.319 -8.29,-3.031 ; -8.29,-2.049 -8.29,-1.761 ; -8.29,-0.779 -8.29,-0.491 ; -8.29,0.491 -8.29,0.779 ; -8.29,1.761 -8.29,2.049 ; -8.29,3.031 -8.29,3.319 ; -8.29,4.301 -8.29,4.589 ; -8.29,5.571 -8.29,5.859 ; -8.29,6.841 -8.29,7.79 -7.79,8.29 -6.841,8.29 ; -8.24,-6.841 -7.04,-8.29 -6.841,-8.29 ; -5.859,-8.29 -5.571,-8.29 ; -5.859,8.29 -5.571,8.29 ; -4.589,-8.29 -4.301,-8.29 ; -4.589,8.29 -4.301,8.29 ; -3.319,-8.29 -3.031,-8.29 ; -3.319,8.29 -3.031,8.29 ; -2.049,-8.29 -1.761,-8.29 ; -2.049,8.29 -1.761,8.29 ; -0.779,-8.29 -0.491,-8.29 ; -0.779,8.29 -0.491,8.29 ; 0.491,-8.29 0.779,-8.29 ; 0.491,8.29 0.779,8.29 ; 1.761,-8.29 2.049,-8.29 ; 1.761,8.29 2.049,8.29 ; 3.031,-8.29 3.319,-8.29 ; 3.031,8.29 3.319,8.29 ; 4.301,-8.29 4.589,-8.29 ; 4.301,8.29 4.589,8.29 ; 5.571,-8.29 5.859,-8.29 ; 5.571,8.29 5.859,8.29 ; 6.841,-8.29 7.79,-8.29 8.29,-7.79 8.29,-6.841 ; 6.841,8.29 7.79,8.29 8.29,7.79 8.29,6.841 ; 8.29,-5.859 8.29,-5.571 ; 8.29,-4.589 8.29,-4.301 ; 8.29,-3.319 8.29,-3.031 ; 8.29,-2.049 8.29,-1.761 ; 8.29,-0.779 8.29,-0.491 ; 8.29,0.491 8.29,0.779 ; 8.29,1.761 8.29,2.049 ; 8.29,3.031 8.29,3.319 ; 8.29,4.301 8.29,4.589 ; 8.29,5.571 8.29,5.859
Mechanical 16:
  circle w0.051: c-5.96,0 r0.5
  rectangle: -2.92,8.29 -2.16,8.76
  rectangle: -1.65,8.29 -0.89,8.76
  rectangle: -0.38,8.29 0.38,8.76
  rectangle: 0.89,8.29 1.65,8.76
  rectangle: 2.16,8.29 2.92,8.76
  rectangle: 3.43,8.29 4.19,8.76
  rectangle: 4.7,8.29 5.46,8.76
  rectangle: 8.29,3.43 8.76,4.19
  rectangle: 8.29,2.16 8.76,2.92
  rectangle: 8.29,0.89 8.76,1.65
  rectangle: 8.29,-0.38 8.76,0.38
  rectangle: 8.29,-1.65 8.76,-0.89
  rectangle: 8.29,-2.92 8.76,-2.16
  rectangle: 8.29,-6.73 8.76,-5.97
  rectangle: -5.46,-8.76 -4.7,-8.29
  rectangle: -4.19,-8.76 -3.43,-8.29
  rectangle: -2.92,-8.76 -2.16,-8.29
  rectangle: -1.65,-8.76 -0.89,-8.29
  rectangle: -0.38,-8.76 0.38,-8.29
  rectangle: 0.89,-8.76 1.65,-8.29
  rectangle: 2.16,-8.76 2.92,-8.29
  rectangle: -8.76,3.43 -8.29,4.19
  rectangle: -8.76,2.16 -8.29,2.92
  rectangle: -8.76,0.89 -8.29,1.65
  rectangle: -8.76,-0.38 -8.29,0.38
  rectangle: -8.76,-1.65 -8.29,-0.89
  rectangle: -8.76,-2.92 -8.29,-2.16
  rectangle: -8.76,-6.73 -8.29,-5.97
  rectangle: -4.19,8.29 -3.43,8.76
  rectangle: -5.46,8.29 -4.7,8.76
  rectangle: 3.43,-8.76 4.19,-8.29
  rectangle: 4.7,-8.76 5.46,-8.29
  rectangle: -8.76,4.7 -8.29,5.46
  rectangle: -8.76,5.97 -8.29,6.73
  rectangle: -8.76,-4.19 -8.29,-3.43
  rectangle: -8.76,-5.46 -8.29,-4.7
  rectangle: 5.97,-8.76 6.73,-8.29
  rectangle: 8.29,-5.46 8.76,-4.7
  rectangle: 8.29,-4.19 8.76,-3.43
  rectangle: 8.29,4.7 8.76,5.46
  rectangle: 8.29,5.97 8.76,6.73
  rectangle: 5.97,8.29 6.73,8.76
  rectangle: -6.73,8.29 -5.97,8.76
  rectangle: -6.73,-8.76 -5.97,-8.29
  lines w0.051: -8.29,-6.73 -7.04,-7.79 ; -7.79,8.29 -7.04,7.79 ; -7.04,-8.29 -7.04,-7.79 ; 7.79,-8.29 7.54,-7.79 ; 7.79,8.29 7.54,7.79 ; 8.29,-7.79 7.79,-7.54 ; 8.29,7.79 7.79,7.54 ; -7.04,-7.79 7.54,-7.79 ; -7.04,-7.79 -7.04,7.79 ; -7.04,7.79 7.54,7.79 ; 7.54,-7.79 7.79,-7.54 ; 7.54,7.79 7.79,7.54 ; 7.79,-7.54 7.79,7.54
  lines w0.152: -8.29,-6.73 -7.04,-8.29 7.79,-8.29 8.29,-7.79 8.29,7.79 7.79,8.29 -7.79,8.29 -8.29,7.79 -8.29,-6.73

## PLCC52 [mm]
pads (52):
  rect 0.6x2.2 smd: 1(0,9.4) 2(-1.27,9.4) 3(-2.54,9.4) 4(-3.81,9.4) 5(-5.08,9.4) 6(-6.35,9.4) 7(-7.62,9.4) 21(-7.62,-9.4) 22(-6.35,-9.4) 23(-5.08,-9.4) 24(-3.81,-9.4) 25(-2.54,-9.4) 26(-1.27,-9.4) 27(0,-9.4) 28(1.27,-9.4) 29(2.54,-9.4) 30(3.81,-9.4) 31(5.08,-9.4) 32(6.35,-9.4) 33(7.62,-9.4) 47(7.62,9.4) 48(6.35,9.4) 49(5.08,9.4) 50(3.81,9.4) 51(2.54,9.4) 52(1.27,9.4)
  rect 2.2x0.6 smd: 8(-9.4,7.62) 9(-9.4,6.35) 10(-9.4,5.08) 11(-9.4,3.81) 12(-9.4,2.54) 13(-9.4,1.27) 14(-9.4,0) 15(-9.4,-1.27) 16(-9.4,-2.54) 17(-9.4,-3.81) 18(-9.4,-5.08) 19(-9.4,-6.35) 20(-9.4,-7.62) 34(9.4,-7.62) 35(9.4,-6.35) 36(9.4,-5.08) 37(9.4,-3.81) 38(9.4,-2.54) 39(9.4,-1.27) 40(9.4,0) 41(9.4,1.27) 42(9.4,2.54) 43(9.4,3.81) 44(9.4,5.08) 45(9.4,6.35) 46(9.4,7.62)
Mechanical 16:
  circle w0.61: c0,8.9 r0.3
  rectangle: -0.26,10.05 0.26,10.5
  rectangle: -1.53,10.05 -1.01,10.5
  rectangle: -2.8,10.05 -2.28,10.5
  rectangle: -4.07,10.05 -3.55,10.5
  rectangle: -5.34,10.05 -4.82,10.5
  rectangle: -6.61,10.05 -6.09,10.5
  rectangle: -7.88,10.05 -7.36,10.5
  rectangle: -10.5,7.36 -10.05,7.88
  rectangle: -10.5,6.09 -10.05,6.61
  rectangle: -10.5,4.82 -10.05,5.34
  rectangle: -10.5,3.55 -10.05,4.07
  rectangle: -10.5,2.28 -10.05,2.8
  rectangle: -10.5,1.01 -10.05,1.53
  rectangle: -10.5,-0.26 -10.05,0.26
  rectangle: -10.5,-1.53 -10.05,-1.01
  rectangle: -10.5,-2.8 -10.05,-2.28
  rectangle: -10.5,-4.07 -10.05,-3.55
  rectangle: -10.5,-5.34 -10.05,-4.82
  rectangle: -10.5,-6.61 -10.05,-6.09
  rectangle: -10.5,-7.88 -10.05,-7.36
  rectangle: -7.88,-10.5 -7.36,-10.05
  rectangle: -6.61,-10.5 -6.09,-10.05
  rectangle: -5.34,-10.5 -4.82,-10.05
  rectangle: -4.07,-10.5 -3.55,-10.05
  rectangle: -2.8,-10.5 -2.28,-10.05
  rectangle: -1.53,-10.5 -1.01,-10.05
  rectangle: -0.26,-10.5 0.26,-10.05
  rectangle: 1.01,-10.5 1.53,-10.05
  rectangle: 2.28,-10.5 2.8,-10.05
  rectangle: 3.55,-10.5 4.07,-10.05
  rectangle: 4.82,-10.5 5.34,-10.05
  rectangle: 6.09,-10.5 6.61,-10.05
  rectangle: 7.36,-10.5 7.88,-10.05
  rectangle: 10.05,-7.88 10.5,-7.36
  rectangle: 10.05,-6.61 10.5,-6.09
  rectangle: 10.05,-5.34 10.5,-4.82
  rectangle: 10.05,-4.07 10.5,-3.55
  rectangle: 10.05,-2.8 10.5,-2.28
  rectangle: 10.05,-1.53 10.5,-1.01
  rectangle: 10.05,-0.26 10.5,0.26
  rectangle: 10.05,1.01 10.5,1.53
  rectangle: 10.05,2.28 10.5,2.8
  rectangle: 10.05,3.55 10.5,4.07
  rectangle: 10.05,4.82 10.5,5.34
  rectangle: 10.05,6.09 10.5,6.61
  rectangle: 10.05,7.36 10.5,7.88
  rectangle: 7.36,10.05 7.88,10.5
  rectangle: 6.09,10.05 6.61,10.5
  rectangle: 4.82,10.05 5.34,10.5
  rectangle: 3.55,10.05 4.07,10.5
  rectangle: 2.28,10.05 2.8,10.5
  rectangle: 1.01,10.05 1.53,10.5
  lines w0.203: -10,-10 -10,7.765 -7.765,10 10,10 10,-10 -10,-10